# Altium schematic symbol library FH12-22S-0.5SH(55).Schlib: 1 symbol
Pins are listed as number, name and electrical type; pins without a type are passive.

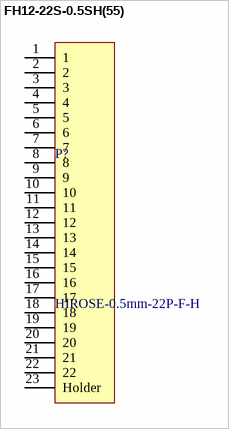
[diagram p0: symbol FH12-22S-0.5SH(55)]

## FH12-22S-0.5SH(55)
designator P?, comment HIROSE-0.5mm-22P-F-H
22 Pin Horizontal Hirose FPC Header
pins: 1, 2, 3, 4, 5, 6, 7, 8, 9, 10, 11, 12, 13, 14, 15, 16, 17, 18, 19, 20, 21, 22, 23 Holder